# Altium schematic symbol library CAP,Cer,10uF,10VDC,X5R,0805.Schlib: 1 symbol
Pins are listed as number, name and electrical type; pins without a type are passive.

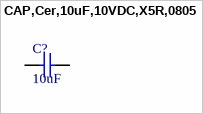
[diagram p0: symbol CAP,Cer,10uF,10VDC,X5R,0805]

## CAP,Cer,10uF,10VDC,X5R,0805
designator C?, comment 10uF
CAP CER 10UF 10V X5R 0805
pins: 1, 2